# Altium schematic symbol library Display_Character.SchLib: 128 symbols (part 2 of 2)
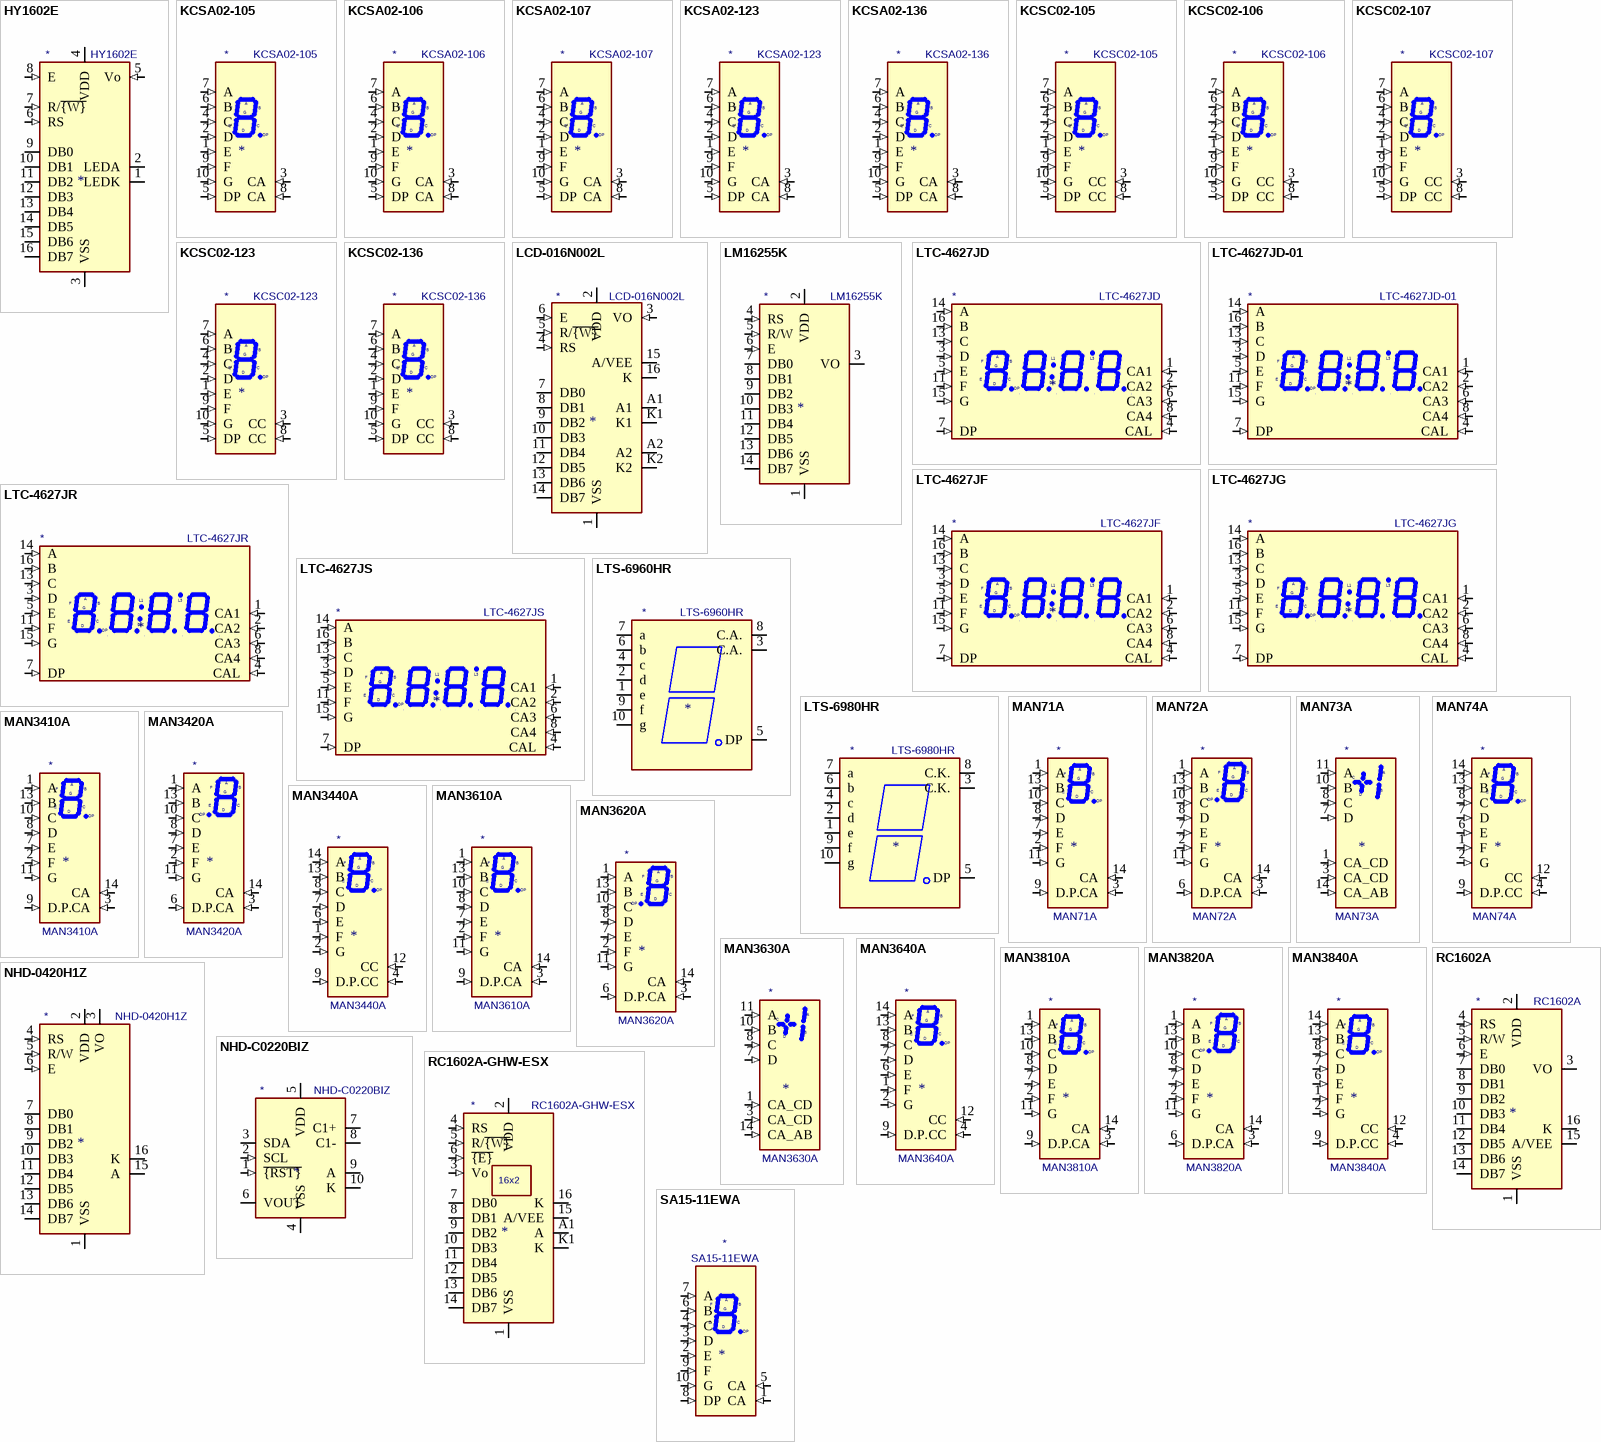
[diagram p4: symbols HY1602E to SA15-11EWA]

## MAN3640A
designator *  value MAN3640A
ki_keywords: display LED 7-segment; ki_description: Single digit 7 segment orange LED common anode right hand decimal; ki_fp_filters: MAN3610A*; Footprint: Display_7Segment:MAN3610A; Supplier: https://www.digchip.com/datasheets/parts/datasheet/161/MAN3640A-pdf.php
footprint MAN3610A
pins: 1 F (in), 2 G (in), 3 NC (in) hidden, 4 CC (in), 5 NC (in) hidden, 6 E (in), 7 D (in), 8 C (in), 9 D.P. (in), 10 NC (in) hidden, 11 NC (in) hidden, 12 CC (in), 13 B (in), 14 A (in)
text: DP

## MAN3810A
designator *  value MAN3810A
ki_keywords: display LED 7-segment; ki_description: Single digit 7 segment yellow LED common anode right hand decimal; ki_fp_filters: *MAN3810A*; Footprint: Display_7Segment:MAN3810A; Supplier: https://www.digchip.com/datasheets/parts/datasheet/161/MAN3640A-pdf.php
footprint MAN3810A
pins: 1 A (in), 2 F (in), 3 CA (in), 4 NC (in) hidden, 5 NC (in) hidden, 6 NC (in) hidden, 7 E (in), 8 D (in), 9 D.P. (in), 10 C (in), 11 G (in), 12 NC (in) hidden, 13 B (in), 14 CA (in)
text: DP

## MAN3820A
designator *  value MAN3820A
ki_keywords: display LED 7-segment; ki_description: Single digit 7 segment yellow LED common anode left hand decimal; ki_fp_filters: *MAN3820A*; Footprint: Display_7Segment:MAN3820A; Supplier: https://www.digchip.com/datasheets/parts/datasheet/161/MAN3640A-pdf.php
footprint MAN3820A
pins: 1 A (in), 2 F (in), 3 CA (in), 4 NC (in) hidden, 5 NC (in) hidden, 6 D.P. (in), 7 E (in), 8 D (in), 9 NC (in) hidden, 10 C (in), 11 G (in), 12 NC (in) hidden, 13 B (in), 14 CA (in)
text: DP

## MAN3840A
designator *  value MAN3840A
ki_keywords: display LED 7-segment; ki_description: Single digit 7 segment yellow LED common anode right hand decimal; ki_fp_filters: MAN3810A*; Footprint: Display_7Segment:MAN3810A; Supplier: https://www.digchip.com/datasheets/parts/datasheet/161/MAN3640A-pdf.php
footprint MAN3810A
pins: 1 F (in), 2 G (in), 3 NC (in) hidden, 4 CC (in), 5 NC (in) hidden, 6 E (in), 7 D (in), 8 C (in), 9 D.P. (in), 10 NC (in) hidden, 11 NC (in) hidden, 12 CC (in), 13 B (in), 14 A (in)
text: DP

## NHD-0420H1Z
designator *  value NHD-0420H1Z
ki_keywords: display LCD 20x4; ki_description: LCD 20x4 Alphanumeric 16pin Blue/White/Green Backlight, 8bit parallel, 3.3V VDD; ki_fp_filters: NHD*0420H1Z*; Footprint: Display:NHD-0420H1Z; Supplier: http://www.newhavendisplay.com/specs/NHD-0420H1Z-FSW-GBW-33V3.pdf
footprint NHD-0420H1Z
pins: 1 VSS (power), 2 VDD (power), 3 VO (power), 4 RS (in), 5 R/W (in), 6 E (in), 7 DB0 (io), 8 DB1 (io), 9 DB2 (io), 10 DB3 (io), 11 DB4 (io), 12 DB5 (io), 13 DB6 (io), 14 DB7 (io), 15 A, 16 K

## NHD-C0220BIZ
designator *  value NHD-C0220BIZ
ki_keywords: display LCD 20x2; ki_description: LCD 20x2 Alphanumeric 10pin Blue/White/Green Backlight, i2c, 3.3V VDD; ki_fp_filters: NHD*C0220BiZ*; Footprint: Display:NHD-C0220BiZ; Supplier: http://www.newhavendisplay.com/specs/NHD-C0220BiZ-FSW-FBW-3V3M.pdf
footprint NHD-C0220BiZ
pins: 1 ~{{RST}} (in), 2 SCL (in), 3 SDA (io), 4 VSS (power), 5 VDD (power), 6 VOUT, 7 C1+, 8 C1-, 9 A, 10 K

## RC1602A
designator *  value RC1602A
ki_keywords: display LCD dot-matrix; ki_description: LCD 16x2 Alphanumeric gray backlight, 3 or 5V VDD; ki_fp_filters: *RC1602A*; Footprint: Display:RC1602A; Supplier: http://www.raystar-optronics.com/down.php?ProID=18
footprint RC1602A
pins: 1 VSS (power), 2 VDD (power), 3 VO (power), 4 RS (in), 5 R/W (in), 6 E (in), 7 DB0 (io), 8 DB1 (io), 9 DB2 (io), 10 DB3 (io), 11 DB4 (io), 12 DB5 (io), 13 DB6 (io), 14 DB7 (io), 15 A/VEE (power), 16 K (power)

## RC1602A-GHW-ESX
designator *  value RC1602A-GHW-ESX
ki_keywords: display LCD dot-matrix; ki_description: LCD 16x2 Alphanumeric 16pin Gray Backlight; ki_fp_filters: RC1602A*; Footprint: Display:RC1602A; Supplier: http://www.raystar-optronics.com/down.php?ProID=18
footprint RC1602A
pins: 1 VSS (power), 2 VDD (power), 3 Vo (in), 4 RS (in), 5 R/~{{W}} (in), 6 ~{{E}} (in), 7 DB0 (io), 8 DB1 (io), 9 DB2 (io), 10 DB3 (io), 11 DB4 (io), 12 DB5 (io), 13 DB6 (io), 14 DB7 (io), 15 A/VEE, 16 K, A1 A, K1 K
text: 16x2

## SA15-11EWA
designator *  value SA15-11EWA
ki_keywords: display LED 7-segment; ki_description: High Efficiency Red Single-digit Numeric Display with white white diffused lens, common anode; ki_fp_filters: SA15?11*; Footprint: Display_7Segment:SA15-11xxx; Supplier: http://www.kingbrightusa.com/images/catalog/SPEC/SA15-11EWA.pdf
footprint SA15-11xxx
pins: 1 CA (in), 2 E (in), 3 D (in), 4 C (in), 5 CA (in), 6 B (in), 7 A (in), 8 DP (in), 9 F (in), 10 G (in)

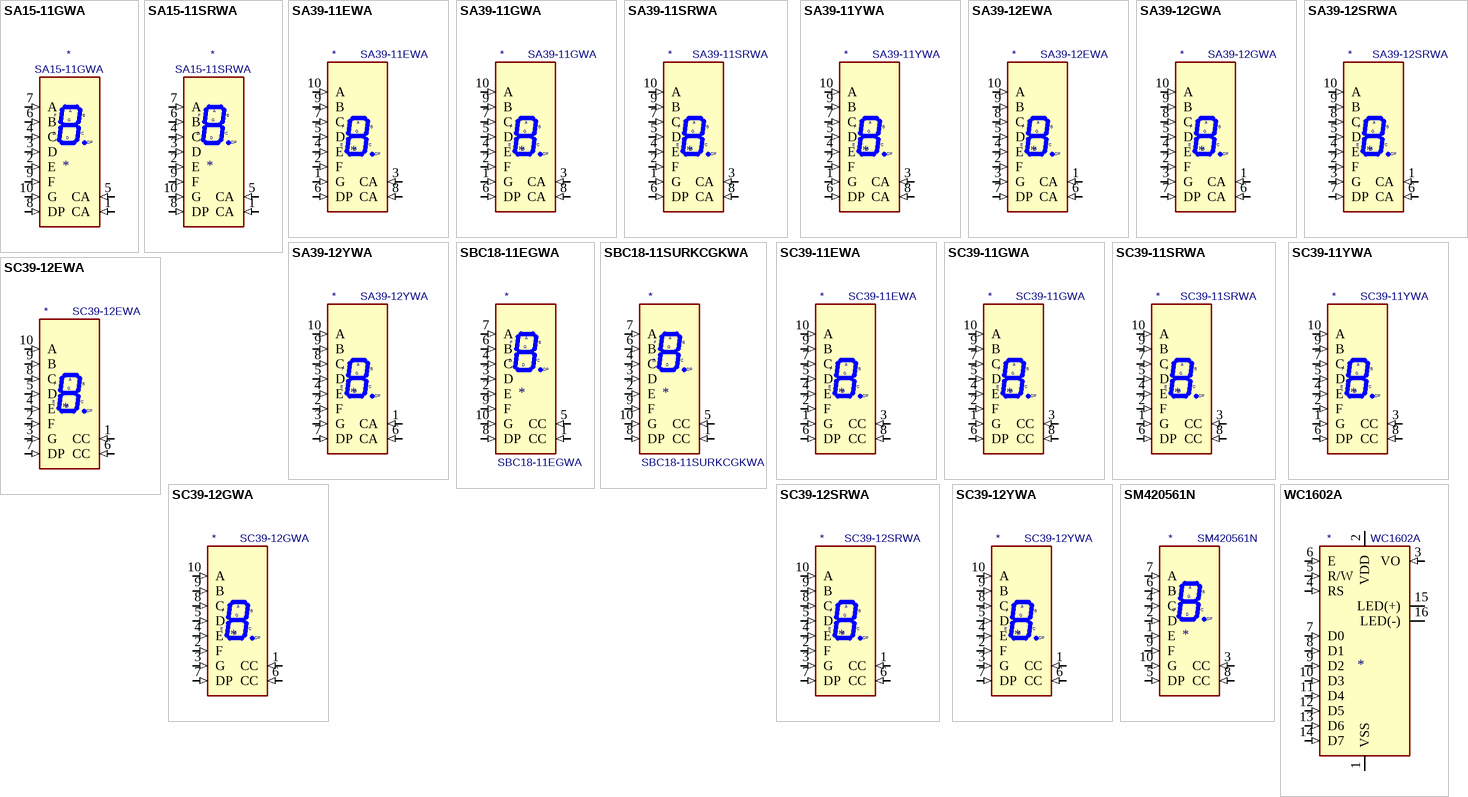
[diagram p3: symbols SA15-11GWA to WC1602A]

## SA15-11GWA
designator *  value SA15-11GWA
ki_keywords: display LED 7-segment; ki_description: Green Single-digit Numeric Display with white white diffused lens, common anode; ki_fp_filters: SA15?11*; Footprint: Display_7Segment:SA15-11xxx; Supplier: http://www.kingbrightusa.com/images/catalog/SPEC/SA15-11GWA.pdf
footprint SA15-11xxx
pins: 1 CA (in), 2 E (in), 3 D (in), 4 C (in), 5 CA (in), 6 B (in), 7 A (in), 8 DP (in), 9 F (in), 10 G (in)

## SA15-11SRWA
designator *  value SA15-11SRWA
ki_keywords: display LED 7-segment; ki_description: Super Bright Red Single-digit Numeric Display with white white diffused lens, common anode; ki_fp_filters: SA15?11*; Footprint: Display_7Segment:SA15-11xxx; Supplier: http://www.kingbrightusa.com/images/catalog/SPEC/SA15-11SRWA.pdf
footprint SA15-11xxx
pins: 1 CA (in), 2 E (in), 3 D (in), 4 C (in), 5 CA (in), 6 B (in), 7 A (in), 8 DP (in), 9 F (in), 10 G (in)

## SA39-11EWA
designator *  value SA39-11EWA
ki_keywords: display LED 7-segment; ki_description: Single digit 7 segment display, high efficiency red, common anode; ki_fp_filters: S?39?1*; Footprint: Display_7Segment:Sx39-1xxxxx; Supplier: http://www.kingbrightusa.com/images/catalog/SPEC/sa39-11ewa.pdf
footprint Sx39-1xxxxx
pins: 1 G (in), 2 F (in), 3 CA (in), 4 E (in), 5 D (in), 6 DP (in), 7 C (in), 8 CA (in), 9 B (in), 10 A (in)

## SA39-11GWA
designator *  value SA39-11GWA
ki_keywords: display LED 7-segment; ki_description: Single digit 7 segment display, green, common anode; ki_fp_filters: S?39?1*; Footprint: Display_7Segment:Sx39-1xxxxx; Supplier: http://www.kingbrightusa.com/images/catalog/SPEC/sa39-11gwa.pdf
footprint Sx39-1xxxxx
pins: 1 G (in), 2 F (in), 3 CA (in), 4 E (in), 5 D (in), 6 DP (in), 7 C (in), 8 CA (in), 9 B (in), 10 A (in)

## SA39-11SRWA
designator *  value SA39-11SRWA
ki_keywords: display LED 7-segment; ki_description: Single digit 7 segment display, super bright red, common anode; ki_fp_filters: S?39?1*; Footprint: Display_7Segment:Sx39-1xxxxx; Supplier: http://www.kingbrightusa.com/images/catalog/SPEC/sa39-11srwa.pdf
footprint Sx39-1xxxxx
pins: 1 G (in), 2 F (in), 3 CA (in), 4 E (in), 5 D (in), 6 DP (in), 7 C (in), 8 CA (in), 9 B (in), 10 A (in)

## SA39-11YWA
designator *  value SA39-11YWA
ki_keywords: display LED 7-segment; ki_description: Single digit 7 segment display, yellow, common anode; ki_fp_filters: S?39?1*; Footprint: Display_7Segment:Sx39-1xxxxx; Supplier: http://www.kingbrightusa.com/images/catalog/SPEC/sa39-11ywa.pdf
footprint Sx39-1xxxxx
pins: 1 G (in), 2 F (in), 3 CA (in), 4 E (in), 5 D (in), 6 DP (in), 7 C (in), 8 CA (in), 9 B (in), 10 A (in)

## SA39-12EWA
designator *  value SA39-12EWA
ki_keywords: display LED 7-segment; ki_description: Single digit 7 segment display, high efficiency red, common anode; ki_fp_filters: S?39?1*; Footprint: Display_7Segment:Sx39-1xxxxx; Supplier: http://www.kingbrightusa.com/images/catalog/SPEC/sa39-12ewa.pdf
footprint Sx39-1xxxxx
pins: 1 CA (in), 2 F (in), 3 G (in), 4 E (in), 5 D (in), 6 CA (in), 7 DP (in), 8 C (in), 9 B (in), 10 A (in)

## SA39-12GWA
designator *  value SA39-12GWA
ki_keywords: display LED 7-segment; ki_description: Single digit 7 segment display, green, common anode; ki_fp_filters: S?39?1*; Footprint: Display_7Segment:Sx39-1xxxxx; Supplier: http://www.kingbrightusa.com/images/catalog/SPEC/sa39-12gwa.pdf
footprint Sx39-1xxxxx
pins: 1 CA (in), 2 F (in), 3 G (in), 4 E (in), 5 D (in), 6 CA (in), 7 DP (in), 8 C (in), 9 B (in), 10 A (in)

## SA39-12SRWA
designator *  value SA39-12SRWA
ki_keywords: display LED 7-segment; ki_description: Single digit 7 segment display, super bright red, common anode; ki_fp_filters: S?39?1*; Footprint: Display_7Segment:Sx39-1xxxxx; Supplier: http://www.kingbrightusa.com/images/catalog/SPEC/sa39-12srwa.pdf
footprint Sx39-1xxxxx
pins: 1 CA (in), 2 F (in), 3 G (in), 4 E (in), 5 D (in), 6 CA (in), 7 DP (in), 8 C (in), 9 B (in), 10 A (in)

## SA39-12YWA
designator *  value SA39-12YWA
ki_keywords: display LED 7-segment; ki_description: Single digit 7 segment display, yellow, common anode; ki_fp_filters: S?39?1*; Footprint: Display_7Segment:Sx39-1xxxxx; Supplier: http://www.kingbrightusa.com/images/catalog/SPEC/sa39-12ywa.pdf
footprint Sx39-1xxxxx
pins: 1 CA (in), 2 F (in), 3 G (in), 4 E (in), 5 D (in), 6 CA (in), 7 DP (in), 8 C (in), 9 B (in), 10 A (in)

## SBC18-11EGWA
designator *  value SBC18-11EGWA
ki_keywords: display LED 7-segment; ki_description: Single digit 7 segment hyper red and green LED display, common cathode; ki_fp_filters: *SBC18*11*; Footprint: Display_7Segment:SBC18-11SURKCGKWA; Supplier: http://www.kingbrightusa.com/images/catalog/SPEC/SBC18-11EGWA.pdf
footprint SBC18-11SURKCGKWA
pins: 1 CC (in), 2 E (in), 3 D (in), 4 C (in), 5 CC (in), 6 B (in), 7 A (in), 8 DP (in), 9 F (in), 10 G (in)

## SBC18-11SURKCGKWA
designator *  value SBC18-11SURKCGKWA
ki_keywords: display LED 7-segment; ki_description: Single digit 7 segment hyper red and green LED display, common cathode; ki_fp_filters: *SBC18*11*; Footprint: Display_7Segment:SBC18-11SURKCGKWA; Supplier: http://www.kingbright.com/attachments/file/psearch/000/00/00/SBC18-11SURKCGKWA(Ver.6A).pdf
footprint SBC18-11SURKCGKWA
pins: 1 CC (in), 2 E (in), 3 D (in), 4 C (in), 5 CC (in), 6 B (in), 7 A (in), 8 DP (in), 9 F (in), 10 G (in)

## SC39-11EWA
designator *  value SC39-11EWA
ki_keywords: display LED 7-segment; ki_description: Single digit 7 segment display, high efficiency red, common cathode; ki_fp_filters: S?39?1*; Footprint: Display_7Segment:Sx39-1xxxxx; Supplier: http://www.kingbrightusa.com/images/catalog/SPEC/sc39-11ewa.pdf
footprint Sx39-1xxxxx
pins: 1 G (in), 2 F (in), 3 CC (in), 4 E (in), 5 D (in), 6 DP (in), 7 C (in), 8 CC (in), 9 B (in), 10 A (in)

## SC39-11GWA
designator *  value SC39-11GWA
ki_keywords: display LED 7-segment; ki_description: Single digit 7 segment display, green, common cathode; ki_fp_filters: S?39?1*; Footprint: Display_7Segment:Sx39-1xxxxx; Supplier: http://www.kingbrightusa.com/images/catalog/SPEC/sc39-11gwa.pdf
footprint Sx39-1xxxxx
pins: 1 G (in), 2 F (in), 3 CC (in), 4 E (in), 5 D (in), 6 DP (in), 7 C (in), 8 CC (in), 9 B (in), 10 A (in)

## SC39-11SRWA
designator *  value SC39-11SRWA
ki_keywords: display LED 7-segment; ki_description: Single digit 7 segment display, super bright red, common cathode; ki_fp_filters: S?39?1*; Footprint: Display_7Segment:Sx39-1xxxxx; Supplier: http://www.kingbrightusa.com/images/catalog/SPEC/sc39-11srwa.pdf
footprint Sx39-1xxxxx
pins: 1 G (in), 2 F (in), 3 CC (in), 4 E (in), 5 D (in), 6 DP (in), 7 C (in), 8 CC (in), 9 B (in), 10 A (in)

## SC39-11YWA
designator *  value SC39-11YWA
ki_keywords: display LED 7-segment; ki_description: Single digit 7 segment display, yellow, common cathode; ki_fp_filters: S?39?1*; Footprint: Display_7Segment:Sx39-1xxxxx; Supplier: http://www.kingbrightusa.com/images/catalog/SPEC/sc39-11ywa.pdf
footprint Sx39-1xxxxx
pins: 1 G (in), 2 F (in), 3 CC (in), 4 E (in), 5 D (in), 6 DP (in), 7 C (in), 8 CC (in), 9 B (in), 10 A (in)

## SC39-12EWA
designator *  value SC39-12EWA
ki_keywords: display LED 7-segment; ki_description: Single digit 7 segment display, high efficiency red, common cathode; ki_fp_filters: S?39?1*; Footprint: Display_7Segment:Sx39-1xxxxx; Supplier: http://www.kingbrightusa.com/images/catalog/SPEC/sc39-12ewa.pdf
footprint Sx39-1xxxxx
pins: 1 CC (in), 2 F (in), 3 G (in), 4 E (in), 5 D (in), 6 CC (in), 7 DP (in), 8 C (in), 9 B (in), 10 A (in)

## SC39-12GWA
designator *  value SC39-12GWA
ki_keywords: display LED 7-segment; ki_description: Single digit 7 segment display, green, common cathode; ki_fp_filters: S?39?1*; Footprint: Display_7Segment:Sx39-1xxxxx; Supplier: http://www.kingbrightusa.com/images/catalog/SPEC/sc39-12gwa.pdf
footprint Sx39-1xxxxx
pins: 1 CC (in), 2 F (in), 3 G (in), 4 E (in), 5 D (in), 6 CC (in), 7 DP (in), 8 C (in), 9 B (in), 10 A (in)

## SC39-12SRWA
designator *  value SC39-12SRWA
ki_keywords: display LED 7-segment; ki_description: Single digit 7 segment display, super bright red, common cathode; ki_fp_filters: S?39?1*; Footprint: Display_7Segment:Sx39-1xxxxx; Supplier: http://www.kingbrightusa.com/images/catalog/SPEC/sc39-12srwa.pdf
footprint Sx39-1xxxxx
pins: 1 CC (in), 2 F (in), 3 G (in), 4 E (in), 5 D (in), 6 CC (in), 7 DP (in), 8 C (in), 9 B (in), 10 A (in)

## SC39-12YWA
designator *  value SC39-12YWA
ki_keywords: display LED 7-segment; ki_description: Single digit 7 segment display, yellow, common cathode; ki_fp_filters: S?39?1*; Footprint: Display_7Segment:Sx39-1xxxxx; Supplier: http://www.kingbrightusa.com/images/catalog/SPEC/sc39-12ywa.pdf
footprint Sx39-1xxxxx
pins: 1 CC (in), 2 F (in), 3 G (in), 4 E (in), 5 D (in), 6 CC (in), 7 DP (in), 8 C (in), 9 B (in), 10 A (in)

## SM420561N
designator *  value SM420561N
ki_keywords: display LED 7-segment; ki_description: One digit 7 segment blue LED, common cathode; ki_fp_filters: 7SegmentLED?LTS6760?LTS6780*; Footprint: Display_7Segment:7SegmentLED_LTS6760_LTS6780; Supplier: https://datasheet.lcsc.com/szlcsc/Wuxi-ARK-Tech-Elec-SM420561N_C141367.pdf
footprint 7SegmentLED_LTS6760_LTS6780
pins: 1 E (in), 2 D (in), 3 CC (in), 4 C (in), 5 DP (in), 6 B (in), 7 A (in), 8 CC (in), 9 F (in), 10 G (in)

## WC1602A
designator *  value WC1602A
ki_keywords: display LCD dot-matrix; ki_description: LCD 16x2 Alphanumeric , 8 bit parallel bus, 5V VDD; ki_fp_filters: *WC*1602A*; Footprint: Display:WC1602A; Supplier: http://www.wincomlcd.com/pdf/WC1602A-SFYLYHTC06.pdf
footprint WC1602A
pins: 1 VSS (power), 2 VDD (power), 3 VO (in), 4 RS (in), 5 R/W (in), 6 E (in), 7 D0 (in), 8 D1 (in), 9 D2 (in), 10 D3 (in), 11 D4 (in), 12 D5 (in), 13 D6 (in), 14 D7 (in), 15 LED(+) (power), 16 LED(-) (power)